# EAGLE library part 74LVC1G3157GW (library wicker)
Not proven.
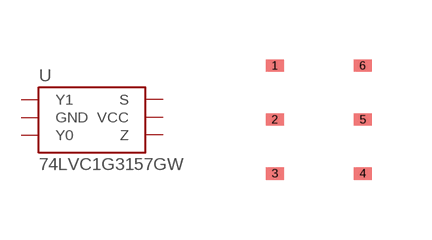
[diagram p1: symbol with the pads of SOT363; footprint SOT363]

Designator prefix -

## 74LVC1G3157GW  [SOT363]
1  Y1
2  GND  pwr
3  Y0
4  Z
5  VCC  pwr
6  S

## Footprint SOT363 (pad centres in mm)
smd 0.45 x 0.3: 1 0,2.7; 2 0,1.35; 3 0,0; 4 2.2,0; 5 2.2,1.35; 6 2.2,2.7